# Altium footprint library LD1117DT.PcbLib: 1 footprints
Each footprint in its own frame and in the unit in brackets; x right, y up, seen from the top. Pads: shape width x height; smd on the part's side, far side on the other; paste and mask are expansions set on the pad; w line width, h text height; cw(c..) or ccw(c..) is an arc to the next point about the centre after c.
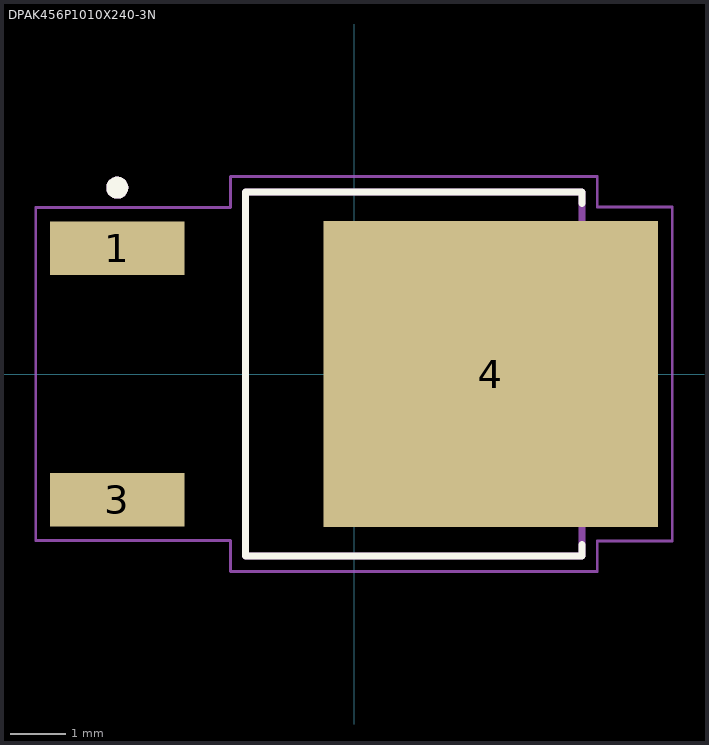
[diagram p0: the footprint, top view; thin cyan lines are the x and y axes]

## DPAK456P1010X240-3N [mm]
pads (3):
  rect 2.44x0.97 smd: 1(-4.29,2.28) 3(-4.29,-2.28)
  rect 6.07x5.55 smd paste-4: 4(2.48,0)
Top Overlay:
  circle w0.2: c-4.293,3.378 r0.1
  lines w0.127: 4.135,-3.095 4.135,-3.3 -1.965,-3.3 -1.965,3.3 4.135,3.3 4.135,3.095
Top Paste:
  region: 1.24,0.425 -0.22,0.425 -0.22,2.355 1.24,2.355
  region: 1.24,-2.355 -0.22,-2.355 -0.22,-0.425 1.24,-0.425
  region: 3.27,0.425 1.81,0.425 1.81,2.355 3.27,2.355
  region: 3.27,-2.355 1.81,-2.355 1.81,-0.425 3.27,-0.425
  region: 5.3,0.425 3.84,0.425 3.84,2.355 5.3,2.355
  region: 5.3,-2.355 3.84,-2.355 3.84,-0.425 5.3,-0.425
Mechanical 13:
  circle w0.2: c-4.293,3.378 r0.1
  lines w0.127: -1.965,-3.3 -1.965,3.3 4.135,3.3 4.135,-3.3 -1.965,-3.3
Mechanical 15:
  lines w0.05: -5.77,-3.02 -5.77,3.02 -2.24,3.02 -2.24,3.58 4.41,3.58 4.41,3.03 5.77,3.03 5.77,-3.03 4.41,-3.03 4.41,-3.58 -2.24,-3.58 -2.24,-3.02 -5.77,-3.02
3D body "LD1117DT33TR.stp": height 2.3, standoff 0, extent -4.95,-3.3 4.576,3.3